# Altium schematic symbol library CONDENSADOR2A.SchLib: 1 symbol
Pins are listed as number, name and electrical type; pins without a type are passive.

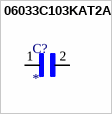
[diagram p0: symbol 06033C103KAT2A]

## 06033C103KAT2A
designator C?
Cap Ceramic 0.01uF 25V X7R 10% Pad SMD 0603 125C T/R; MP: 06033C103KAT2A; Package: None; Price: None; Value: *; Availability: Unavailable
footprint CAPC1608X90N
pins: 1, 2